# Altium footprint library JMPKG.PcbLib: 337 footprints (part 3 of 22)
Each footprint in its own frame and in the unit in brackets; x right, y up, seen from the top. Pads: shape width x height; smd on the part's side, far side on the other; paste and mask are expansions set on the pad; w line width, h text height; cw(c..) or ccw(c..) is an arc to the next point about the centre after c.
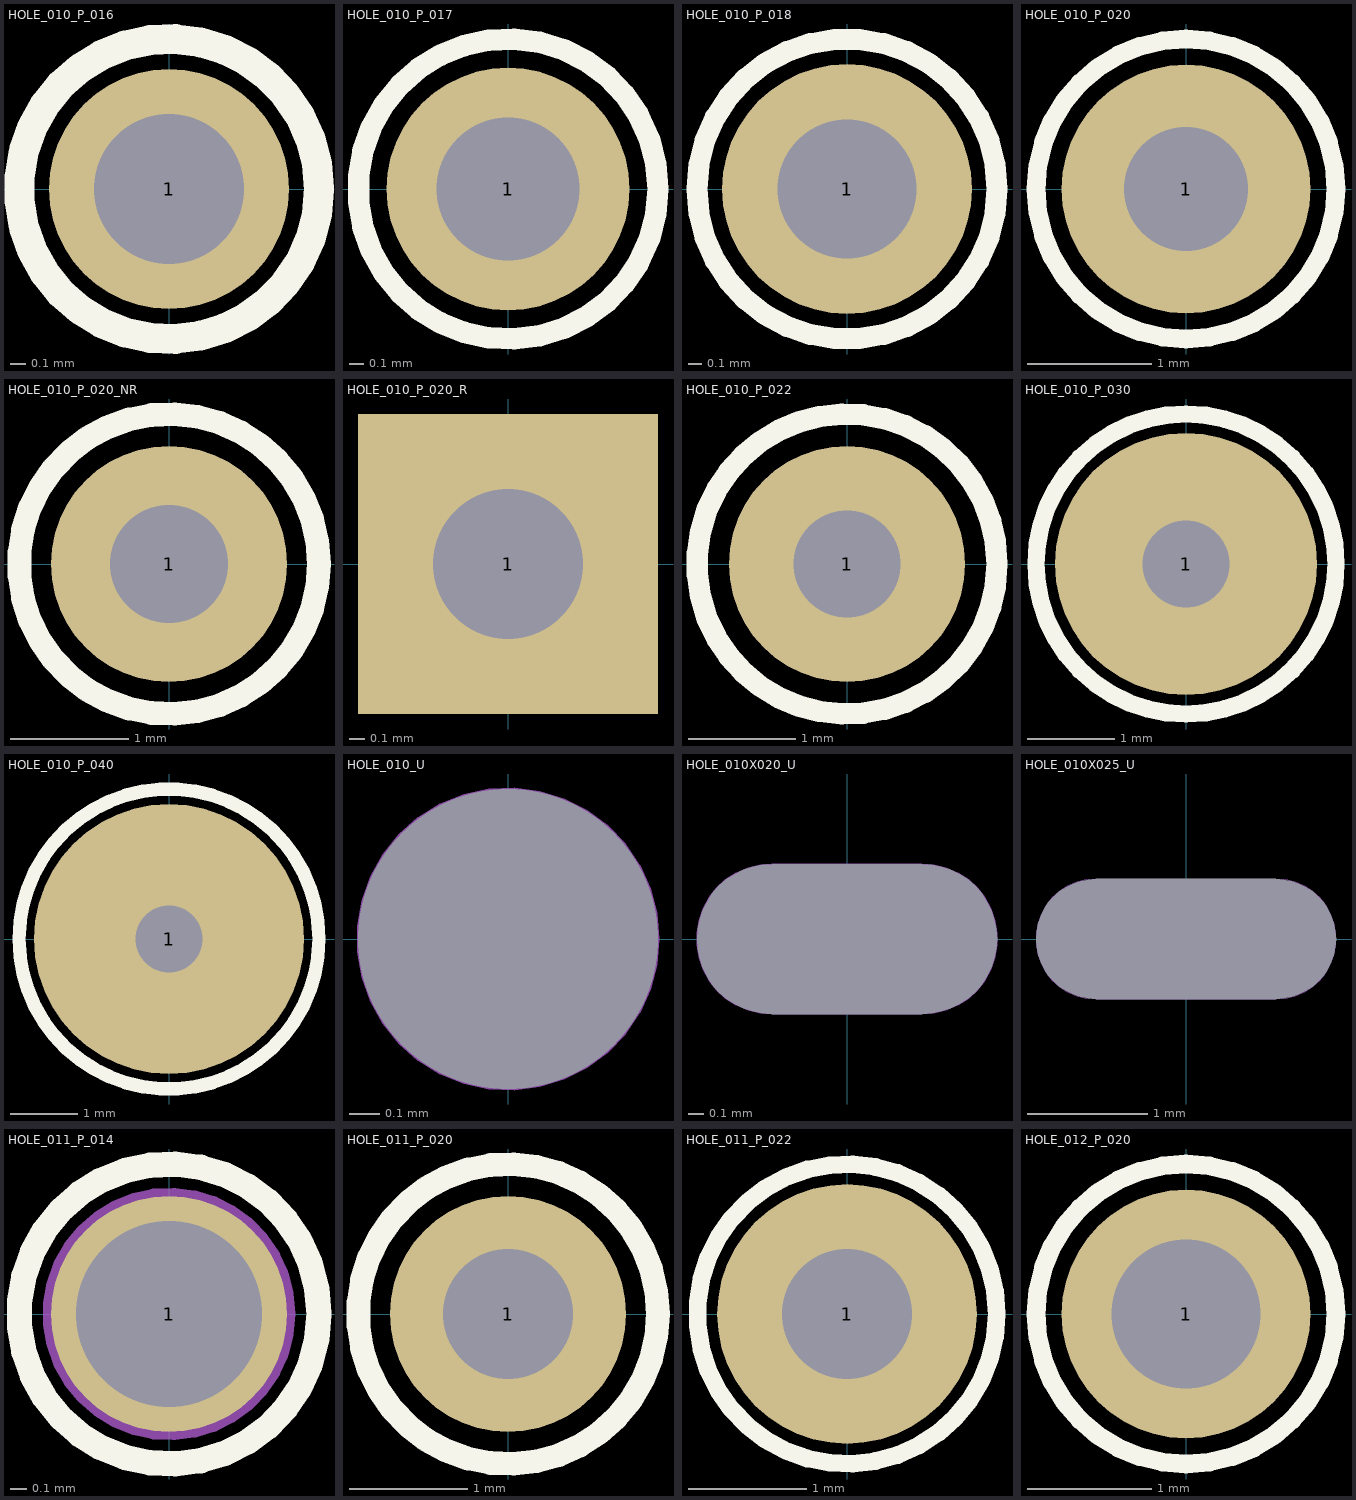
[diagram p2: the footprints below, top view; thin cyan lines are the x and y axes]

## HOLE_010_P_016 [mm]
pads (1):
  round 1.6 hole 1 mask+0.05: 1(0,0)
Top Overlay:
  circle w0.2: c0,0 r1
Mechanical 15:
  circle w0.1: c0,0 r0.5
Mechanical 16:
  circle w0.1: c0,0 r0.5

## HOLE_010_P_017 [mm]
pads (1):
  round 1.7 hole 1 mask+0.05: 1(0,0)
Top Overlay:
  circle w0.15: c0,0 r1.05
Mechanical 15:
  circle w0.01: c0,0 r0.5
Mechanical 16:
  circle w0.01: c0,0 r0.5
Mechanical 20:
  circle w0.01: c0,0 r1.05

## HOLE_010_P_018 [mm]
pads (1):
  round 1.8 hole 1 mask+0.05: 1(0,0)
Top Overlay:
  circle w0.15: c0,0 r1.081
Mechanical 15:
  circle w0.01: c0,0 r0.5
Mechanical 16:
  circle w0.01: c0,0 r0.5
Mechanical 20:
  circle w0.01: c0,0 r1.081

## HOLE_010_P_020 [mm]
pads (1):
  round 2 hole 1 mask+0.05: 1(0,0)
Top Overlay:
  circle w0.15: c0,0 r1.206
Drill Drawing:
  circle w0.01: c0,0 r0.5
Mechanical 20:
  circle w0.01: c0,0 r1.206

## HOLE_010_P_020_NR [mm]
pads (1):
  round 2 hole 1 mask+0.1: 1(0,0)
Top Overlay:
  circle w0.2: c0,0 r1.27
Mechanical 15:
  circle w0.1: c0,0 r0.5
Mechanical 16:
  circle w0.1: c0,0 r0.5
Mechanical 20:
  circle w0.1: c0,0 r1.27

## HOLE_010_P_020_R [mm]
pads (1):
  rect 2x2 hole 1 mask+0.1: 1(0,0)
Mechanical 15:
  circle w0.1: c0,0 r0.508
Mechanical 16:
  circle w0.1: c0,0 r0.508

## HOLE_010_P_022 [mm]
pads (1):
  round 2.2 hole 1 mask+0.1: 1(0,0)
Top Overlay:
  circle w0.2: c0,0 r1.397
Mechanical 15:
  circle w0.1: c0,0 r0.5
Mechanical 16:
  circle w0.1: c0,0 r0.5
Mechanical 20:
  circle w0.1: c0,0 r1.397

## HOLE_010_P_030 [mm]
pads (1):
  round 3 hole 1 mask+0.05: 1(0,0)
Top Overlay:
  circle w0.2: c0,0 r1.716
Mechanical 15:
  circle w0.01: c0,0 r0.5
Mechanical 16:
  circle w0.01: c0,0 r0.5
Mechanical 20:
  circle w0.01: c0,0 r1.716

## HOLE_010_P_040 [mm]
pads (1):
  round 4 hole 1 mask+0.05: 1(0,0)
Top Overlay:
  circle w0.2: c0,0 r2.222
Mechanical 15:
  circle w0.01: c0,0 r0.5
Mechanical 16:
  circle w0.01: c0,0 r0.5
Multi-Layer:
  text "Value" at -1.063,-0.697 h0.75
Mechanical 20:
  circle w0.01: c0,0 r2.222

## HOLE_010_U [mm]
pads (1):
  round 0 hole 1 unplated: 1(0,0)
Mechanical 15:
  circle w0.01: c0,0 r0.5
Mechanical 16:
  circle w0.01: c0,0 r0.5

## HOLE_010X020_U [mm]
pads (1):
  rrect100% 0x0 hole 1 slot 2 at 0 deg unplated: 1(0,0)
Mechanical 15:
  lines w0.01: -0.5,-0.5 cw(c-0.5,0) -0.5,0.5 0.5,0.5 cw(c0.5,0) 0.5,-0.5 -0.5,-0.5
Mechanical 16:
  lines w0.01: -0.5,-0.5 cw(c-0.5,0) -0.5,0.5 0.5,0.5 cw(c0.5,0) 0.5,-0.5 -0.5,-0.5

## HOLE_010X025_U [mm]
pads (1):
  rrect100% 0x0 hole 1 slot 2.5 at 0 deg unplated: 1(0,0)
Mechanical 15:
  lines w0.01: -0.75,-0.5 cw(c-0.75,0) -0.75,0.5 0.75,0.5 cw(c0.75,0) 0.75,-0.5 -0.75,-0.5
Mechanical 16:
  lines w0.01: -0.75,-0.5 cw(c-0.75,0) -0.75,0.5 0.75,0.5 cw(c0.75,0) 0.75,-0.5 -0.75,-0.5

## HOLE_011_P_014 [mm]
pads (1):
  round 1.4 hole 1.1 mask+0.05: 1(0,0)
Top Overlay:
  circle w0.15: c0,0 r0.889
Mechanical 15:
  circle w0.1: c0,0 r0.55
Mechanical 16:
  circle w0.1: c0,0 r0.55
Mechanical 20:
  circle w0.1: c0,0 r0.699

## HOLE_011_P_020 [mm]
pads (1):
  round 2 hole 1.1 mask+0.1: 1(0,0)
Top Overlay:
  circle w0.2: c0,0 r1.27
Mechanical 15:
  circle w0.1: c0,0 r0.55
Mechanical 16:
  circle w0.1: c0,0 r0.55

## HOLE_011_P_022 [mm]
pads (1):
  round 2.2 hole 1.1 mask+0.05: 1(0,0)
Top Overlay:
  circle w0.15: c0,0 r1.27
Mechanical 15:
  circle w0.1: c0,0 r0.55
Mechanical 16:
  circle w0.1: c0,0 r0.55
Multi-Layer:
  text "Value" at -0.988,-0.858 h0.6
Mechanical 20:
  circle w0.1: c0,0 r1.272

## HOLE_012_P_020 [mm]
pads (1):
  round 2 hole 1.2 mask+0.05: 1(0,0)
Top Overlay:
  circle w0.15: c0,0 r1.206
Mechanical 15:
  circle w0.05: c0,0 r0.6
Mechanical 16:
  circle w0.05: c0,0 r0.6
Mechanical 20:
  circle w0.05: c0,0 r1.206